# EAGLE library part C20 (library con-ninigi-3.96)
NINIGI
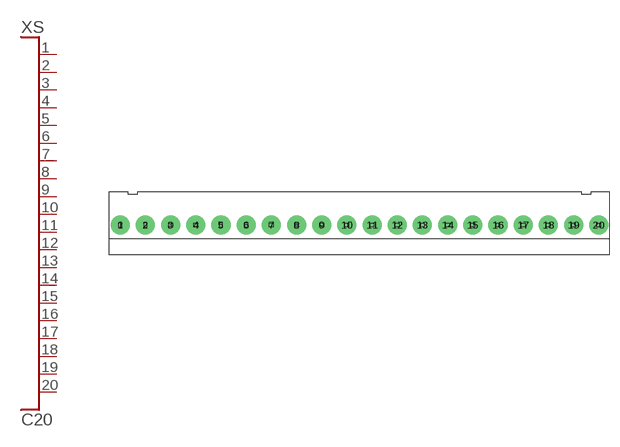
[diagram p14: symbol with the pads of NINIGI20C; footprint NINIGI20C]

Designator prefix XS

## C20  [NINIGI20C]
1  P$1
2  P$2
3  P$3
4  P$4
5  P$5
6  P$6
7  P$7
8  P$8
9  P$9
10  P$10
11  P$11
12  P$12
13  P$13
14  P$14
15  P$15
16  P$16
17  P$17
18  P$18
19  P$19
20  P$20

## Footprint NINIGI20C (pad centres in mm)
drill 1.6 pad 3: 1 -37.62,0; 2 -33.66,0; 3 -29.7,0; 4 -25.74,0; 5 -21.78,0; 6 -17.82,0; 7 -13.86,0; 8 -9.9,0; 9 -5.94,0; 10 -1.98,0; 11 1.98,0; 12 5.94,0; 13 9.9,0; 14 13.86,0; 15 17.82,0; 16 21.78,0; 17 25.74,0; 18 29.7,0; 19 33.66,0; 20 37.62,0